# EAGLE library part FDS9926A (library Strawson_Eagle_Lib)
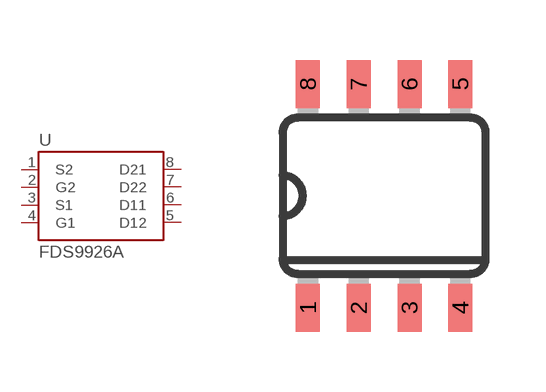
[diagram p12: symbol with the pads of SO08-TIGHT; footprint SO08-TIGHT]

Designator prefix -

## FDS9926A  [SO08-TIGHT]
1  S2
2  G2
3  S1
4  G1
5  D12
6  D11
7  D22
8  D21

## Footprint SO08-TIGHT (pad centres in mm)
smd 0.6 x 1.2: 1 -1.905,-2.8; 2 -0.635,-2.8; 3 0.635,-2.8; 4 1.905,-2.8; 5 1.905,2.8; 6 0.635,2.8; 7 -0.635,2.8; 8 -1.905,2.8